# Altium schematic symbol library Schlib.SchLib: 5 symbols
Pins are listed as number, name and electrical type; pins without a type are passive.

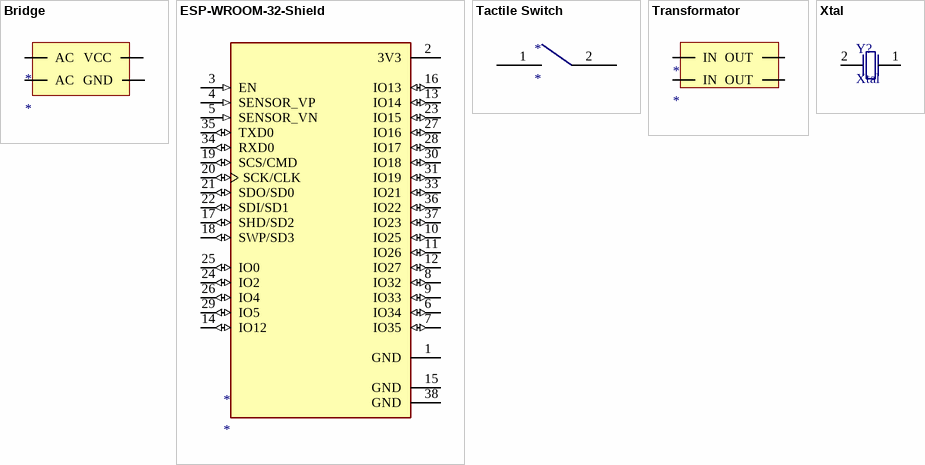
[diagram p0: symbols Bridge to Xtal]

## Bridge
designator *
footprint T2SB_bridge
pins: 1 AC, 2 AC, 3 VCC, 4 GND

## ESP-WROOM-32-Shield
designator *
footprint ESP-WROOM-32-Shield
pins: 1 GND (power), 2 3V3 (power), 3 EN (in), 4 SENSOR_VP (in), 5 SENSOR_VN (in), 6 IO34 (io), 7 IO35 (io), 8 IO32 (io), 9 IO33 (io), 10 IO25 (io), 11 IO26 (io), 12 IO27 (io), 13 IO14 (io), 14 IO12 (io), 15 GND (power), 16 IO13 (io), 17 SHD/SD2 (io), 18 SWP/SD3 (io), 19 SCS/CMD (io), 20 SCK/CLK (io), 21 SDO/SD0 (io), 22 SDI/SD1 (io), 23 IO15 (io), 24 IO2 (io), 25 IO0 (io), 26 IO4 (io), 27 IO16 (io), 28 IO17 (io), 29 IO5 (io), 30 IO18 (io), 31 IO19 (io), 33 IO21 (io), 34 RXD0 (io), 35 TXD0 (io), 36 IO22 (io), 37 IO23 (io), 38 GND (power)

## Tactile Switch
designator *
footprint Tactile switch 2 pin(6*6*..)
pins: 1 4, 2 4

## Transformator
designator *
footprint Transformer(without-pin , 9v , 500mA , new trans)
pins: 1 IN, 2 IN, 3 OUT, 4 OUT

## Xtal
designator Y?
footprint SMD HC-49USM
pins: 1, 2